# EAGLE library part CP2105 (library alvie)
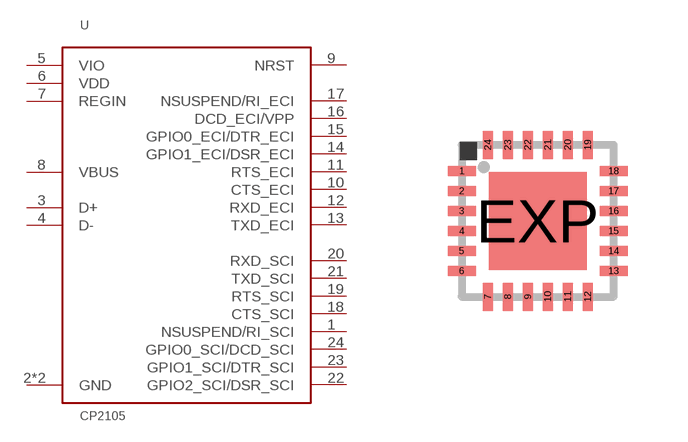
[diagram p64: symbol with the pads of QFN24_4X4; footprint QFN24_4X4]

Designator prefix -

## CP2105  [QFN24_4X4]
1  NSUSPEND/RI_SCI
2  GND  pwr
3  D+  pas
4  D-  pas
5  VIO  pwr
6  VDD  pwr
7  REGIN  pwr
8  VBUS  pas
9  NRST  in
10  CTS_ECI
11  RTS_ECI
12  RXD_ECI
13  TXD_ECI  out
14  GPIO1_ECI/DSR_ECI
15  GPIO0_ECI/DTR_ECI
16  DCD_ECI/VPP
17  NSUSPEND/RI_ECI
18  CTS_SCI
19  RTS_SCI
20  RXD_SCI
21  TXD_SCI  out
22  GPIO2_SCI/DSR_SCI
23  GPIO1_SCI/DTR_SCI
24  GPIO0_SCI/DCD_SCI
EXP  GND  pwr

## Footprint QFN24_4X4 (pad centres in mm)
smd 0.7 x 0.25: 1 -1.9,1.25; 2 -1.9,0.75; 3 -1.9,0.25; 4 -1.9,-0.25; 5 -1.9,-0.75; 6 -1.9,-1.25; 13 1.9,-1.25; 14 1.9,-0.75; 15 1.9,-0.25; 16 1.9,0.25; 17 1.9,0.75; 18 1.9,1.25
smd 0.25 x 0.7: 7 -1.25,-1.9; 8 -0.75,-1.9; 9 -0.25,-1.9; 10 0.25,-1.9; 11 0.75,-1.9; 12 1.25,-1.9; 19 1.25,1.9; 20 0.75,1.9; 21 0.25,1.9; 22 -0.25,1.9; 23 -0.75,1.9; 24 -1.25,1.9
smd 2.45 x 2.45: EXP 0,0